# EAGLE library part MCP1631* (library Power > Switching Controllers)
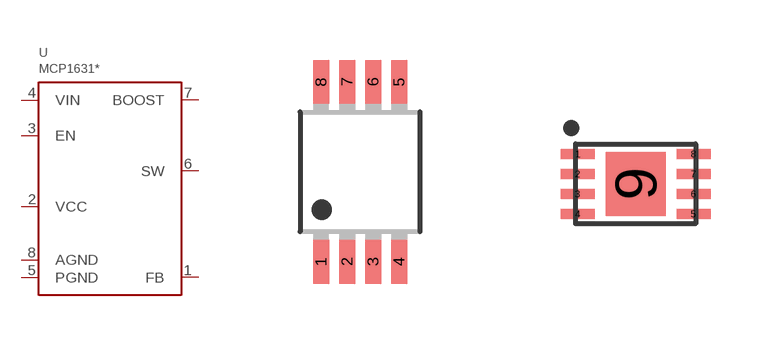
[diagram p11: symbol with the pads of MSOP8; footprints MSOP8, TDFN8]

Designator prefix U

## MCP16311MSOP8, MCP16312MSOP8  [MSOP8]
1  FB
2  VCC
3  EN
4  VIN
5  PGND
6  SW
7  BOOST
8  AGND

## MCP1631TDFN8  [TDFN8]
1  FB
2  VCC
3  EN
4  VIN
5  PGND
6  SW
7  BOOST
8  AGND
9  PGND

## Footprint MSOP8 (pad centres in mm)
smd 0.4 x 1.1: 1 -0.975,-2.25; 2 -0.325,-2.25; 3 0.325,-2.25; 4 0.975,-2.25; 5 0.975,2.25; 6 0.325,2.25; 7 -0.325,2.25; 8 -0.975,2.25

## Footprint TDFN8 (pad centres in mm)
smd 0.85 x 0.25: 1 -1.45,0.75; 2 -1.45,0.25; 3 -1.45,-0.25; 4 -1.45,-0.75; 5 1.45,-0.75; 6 1.45,-0.25; 7 1.45,0.25; 8 1.45,0.75
smd 1.5 x 1.6: 9 0,0